# Altium schematic symbol library SRR1210-471M.SchLib: 2 symbols
Pins are listed as number, name and electrical type; pins without a type are passive.

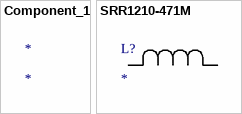
[diagram p0: symbols Component_1 to SRR1210-471M]

## Component_1
designator *

## SRR1210-471M
designator L?
No Description Available; Mfr_Name: Bourns Electronics
footprint IND_BOURNS_SRR1210
pins: 1, 2